# Altium footprint library HDR-TH_5P-P2.54-V-M.PcbLib: 1 footprints
Each footprint in its own frame and in the unit in brackets; x right, y up, seen from the top. Pads: shape width x height; smd on the part's side, far side on the other; paste and mask are expansions set on the pad; w line width, h text height; cw(c..) or ccw(c..) is an arc to the next point about the centre after c.
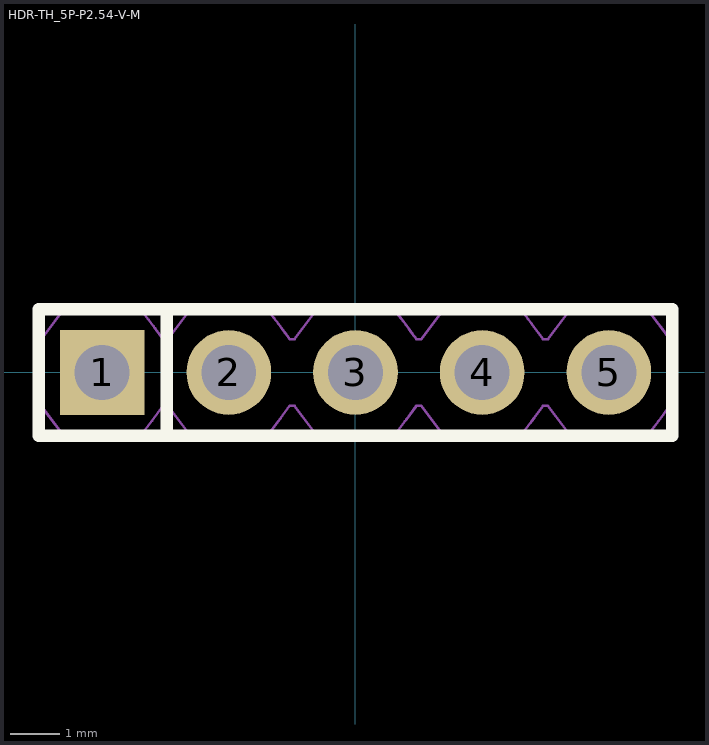
[diagram p0: the footprint, top view; thin cyan lines are the x and y axes]

## HDR-TH_5P-P2.54-V-M [mm]
pads (5):
  rect 1.7x1.7 hole 1.1: 1(-5.08,0)
  round 1.7 hole 1.1: 2(-2.54,0) 3(0,0) 4(2.54,0) 5(5.08,0)
Top Overlay:
  lines w0.254: -3.786,-1.27 -3.786,1.27 ; -6.35,-1.27 -6.35,1.27 6.35,1.27 6.35,-1.27 -6.35,-1.27
Mechanical 6:
  lines w0.051: -6.35,-0.67 -6.35,-0.67 -6.3,-0.67 -5.85,-1.27 -4.31,-1.27 -4.077,-0.965 -3.86,-0.67 -3.76,-0.67 -3.31,-1.27 -1.77,-1.27 -1.542,-0.972 -1.503,-0.919 -1.32,-0.67 -1.22,-0.67 -0.77,-1.27 0.77,-1.27 0.992,-0.98 1.02,-0.942 1.22,-0.67 1.32,-0.67 1.77,-1.27 3.31,-1.271 3.51,-1.009 3.545,-0.963 3.581,-0.913 3.759,-0.67 3.86,-0.67 4.31,-1.27 5.85,-1.27 6.075,-0.976 6.3,-0.67 6.35,-0.67 6.35,0.67 6.3,0.67 6.112,0.925 6.079,0.97 5.85,1.27 4.311,1.27 3.86,0.67 3.76,0.67 3.533,0.979 3.458,1.076 3.31,1.27 1.77,1.27 1.32,0.67 1.22,0.67 1.136,0.783 1.108,0.822 1.01,0.955 0.867,1.143 0.77,1.27 -0.77,1.27 -1.22,0.67 -1.32,0.67 -1.417,0.801 -1.436,0.827 -1.459,0.859 -1.546,0.976 -1.631,1.088 -1.77,1.27 -3.31,1.27 -3.76,0.67 -3.86,0.67 -4.017,0.884 -4.048,0.925 -4.149,1.059 -4.31,1.27 -5.85,1.27 -6.028,1.032 -6.299,0.67 -6.35,0.67 -6.35,-0.67 ; -6.35,-0.67 -6.35,-0.67
Mechanical 8:
  region: -6.29,-1.271 -6.29,-1.296 -6.325,-1.331 -6.375,-1.331 -6.41,-1.296 -6.41,-1.271 -6.41,-1.246 -6.375,-1.211 -6.325,-1.211 -6.29,-1.246 -6.29,-1.271
Mechanical 9:
  region: -5.4,0.32 -4.76,0.32 -4.76,-0.32 -5.4,-0.32
  region: -2.86,0.32 -2.22,0.32 -2.22,-0.32 -2.86,-0.32
  region: -0.32,0.32 0.32,0.32 0.32,-0.32 -0.32,-0.32
  region: 2.22,0.32 2.86,0.32 2.86,-0.32 2.22,-0.32
  region: 4.76,0.32 5.4,0.32 5.4,-0.32 4.76,-0.32